# Altium schematic symbol library ASPI-0630LR-150M-T15.SchLib: 1 symbol
Pins are listed as number, name and electrical type; pins without a type are passive.

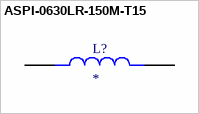
[diagram p0: symbol ASPI-0630LR-150M-T15]

## ASPI-0630LR-150M-T15
designator L?
15 ÂµH Shielded Molded Inductor 3 A 120mOhm Max Nonstandard; MF: Abracon LLC; MP: ASPI-0630LR-150M-T15; Check_prices: https://www.snapeda.com/parts/ASPI-0630LR-150M-T15/Abracon+LLC/view-part/?ref=eda; Digi-Key_Part_Number: ASPI-0630LR-150M-T15TR-ND; Value: *; SnapEDA_Link: https://www.snapeda.com/parts/ASPI-0630LR-150M-T15/Abracon+LLC/view-part/?ref=snap; Package: Nonstandard Abracon LLC; Purchase-URL: https://pricing.snapeda.com/search/part/ASPI-0630LR-150M-T15/?ref=eda
footprint IND_ASPI-0630LR-150M-T15
pins: 1, 2